# Altium schematic symbol library SCH - FET - P-CH - TOSHIBA U-MOSVI P-CH SOT-23-3FL.SCHLIB: 1 symbol
Pins are listed as number, name and electrical type; pins without a type are passive.

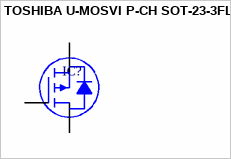
[diagram p0: symbol TOSHIBA U-MOSVI P-CH SOT-23-3FL]

## TOSHIBA U-MOSVI P-CH SOT-23-3FL
designator IC?
pins: 1 G, 2 S, 3 D